# EAGLE library part YSM-1288CR3G2C (library led-matrix-v3)
LED Matrix - Dual Color (Red + Green) - Small sku: COM-00681 0.275 x 1.25 x 1.25"
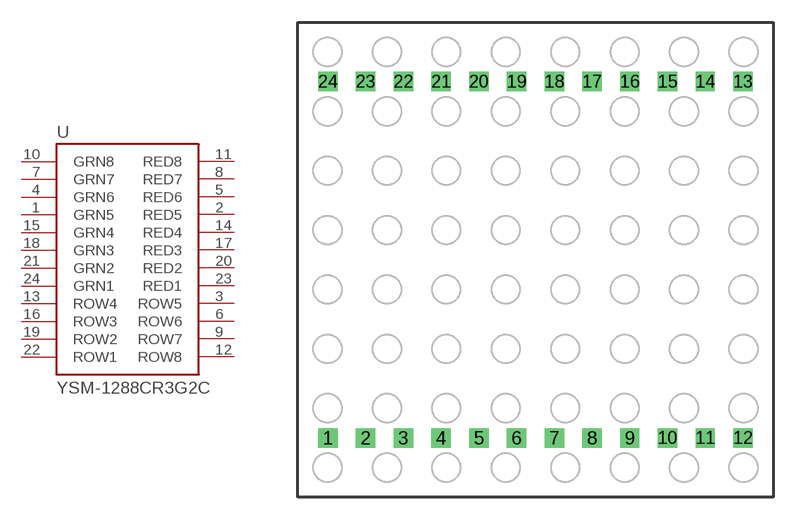
[diagram p0: symbol with the pads of YSM-1288CR3G2C; footprint YSM-1288CR3G2C]

Designator prefix -

## YSM-1288CR3G2C  [YSM-1288CR3G2C]
1  GRN5
2  RED5
3  ROW5
4  GRN6
5  RED6
6  ROW6
7  GRN7
8  RED7
9  ROW7
10  GRN8
11  RED8
12  ROW8
13  ROW4
14  RED4
15  GRN4
16  ROW3
17  RED3
18  GRN3
19  ROW2
20  RED2
21  GRN2
22  ROW1
23  RED1
24  GRN1

## Footprint YSM-1288CR3G2C (pad centres in mm)
drill 0.8 square: 1 -13.975,-12; 2 -11.435,-12; 3 -8.895,-12; 4 -6.355,-12; 5 -3.815,-12; 6 -1.275,-12; 7 1.265,-12; 8 3.805,-12; 9 6.345,-12; 10 8.885,-12; 11 11.425,-12; 12 13.965,-12; 13 13.965,12; 14 11.425,12; 15 8.885,12; 16 6.345,12; 17 3.805,12; 18 1.265,12; 19 -1.275,12; 20 -3.815,12; 21 -6.355,12; 22 -8.895,12; 23 -11.435,12; 24 -13.975,12